# Altium footprint library Header.PcbLib: 112 footprints (part 1 of 7)
Each footprint in its own frame and in the unit in brackets; x right, y up, seen from the top. Pads: shape width x height; smd on the part's side, far side on the other; paste and mask are expansions set on the pad; w line width, h text height; cw(c..) or ccw(c..) is an arc to the next point about the centre after c.
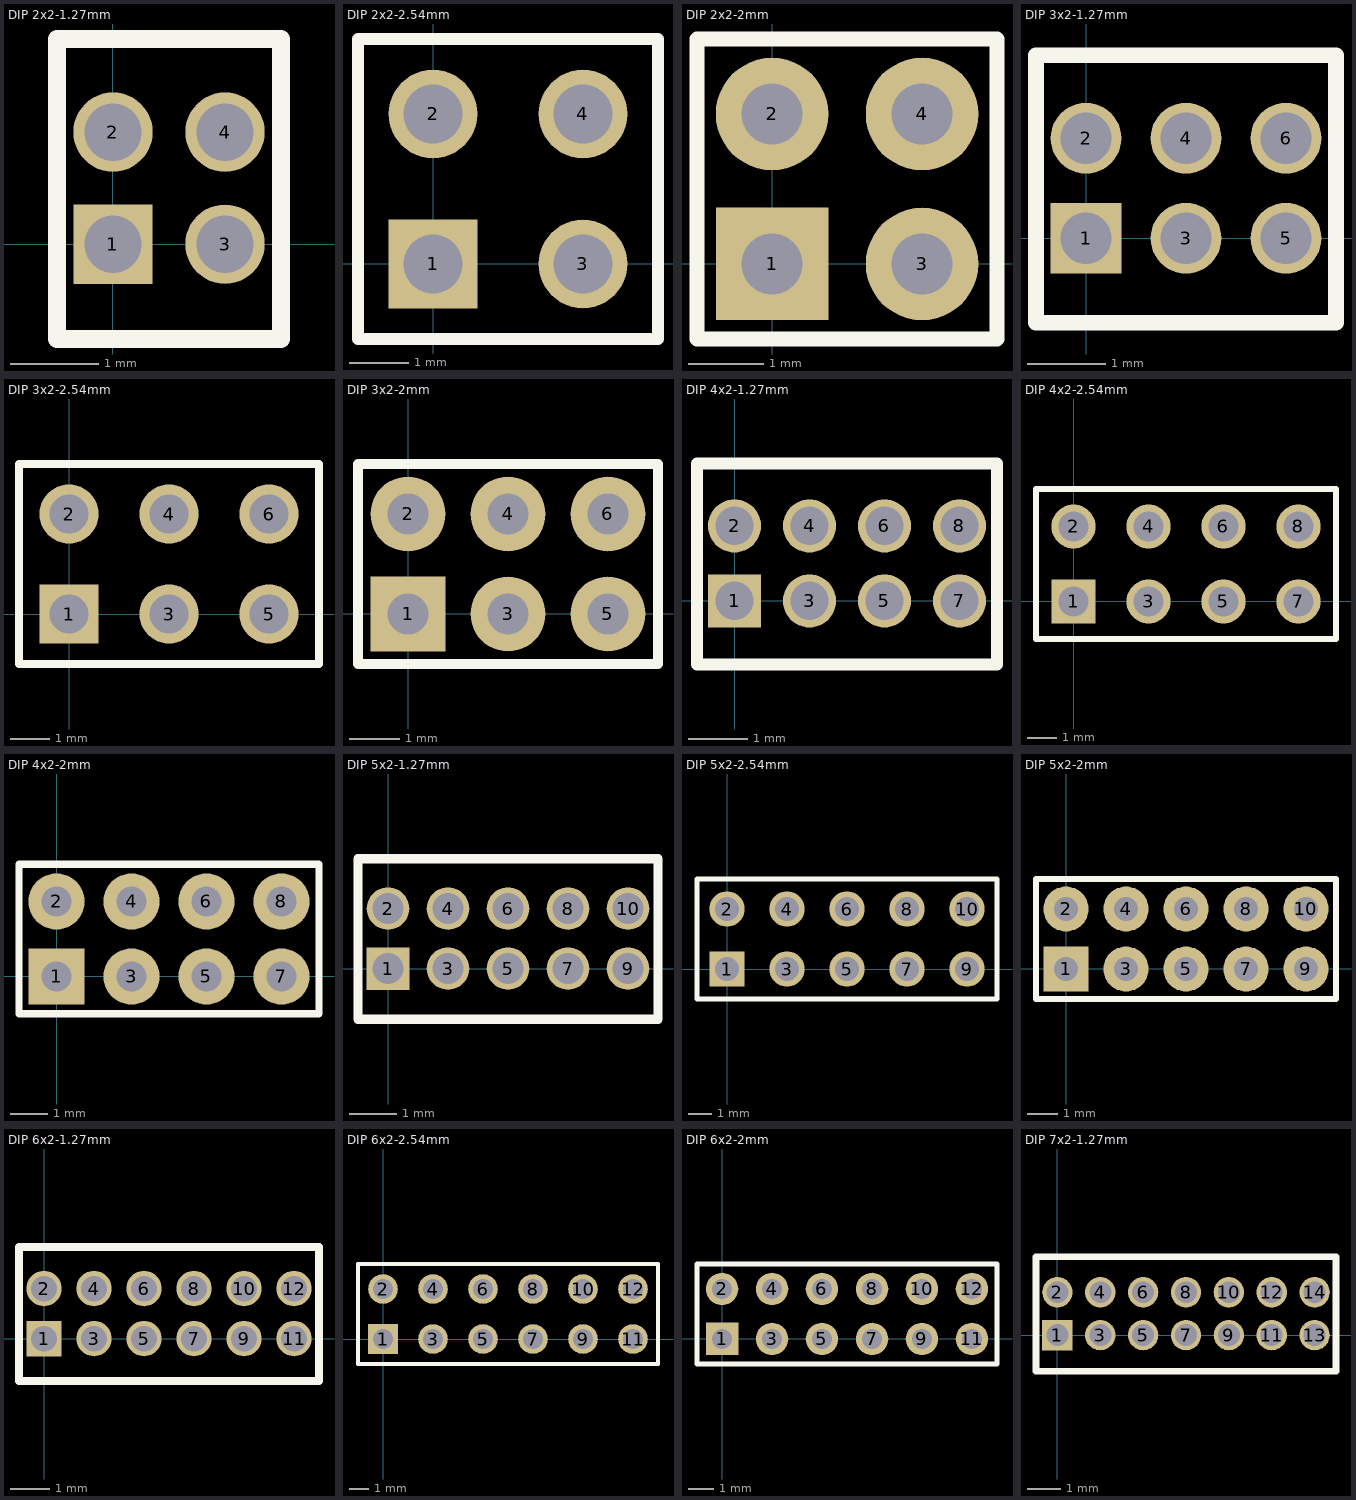
[diagram p0: the footprints below, top view; thin cyan lines are the x and y axes]

## DIP 2x2-1.27mm [mm]
pads (4):
  rect 0.9x0.9 hole 0.65: 1(0,0)
  round 0.9 hole 0.65: 2(0,1.27) 3(1.27,0) 4(1.27,1.27)
Top Overlay:
  lines w0.2: -0.635,-1.075 1.905,-1.075 1.905,2.325 -0.635,2.325 -0.635,-1.075
3D body: height 1.4, standoff 0.4, extent -0.625,-1.075 1.905,2.325
3D body: height 4, standoff 0, extent -0.2,1.07 0.2,1.47
3D body: height 4, standoff 0, extent -0.2,-0.2 0.2,0.2
3D body: height 4, standoff 0, extent 1.07,-0.2 1.47,0.2
3D body: height 4, standoff 0, extent 1.07,1.07 1.47,1.47

## DIP 2x2-2.54mm [mm]
pads (4):
  rect 1.5x1.5 hole 1: 1(0,0)
  round 1.5 hole 1: 2(0,2.54) 3(2.54,0) 4(2.54,2.54)
Top Overlay:
  lines w0.2: -1.27,-1.27 3.81,-1.27 3.81,3.81 -1.27,3.81 -1.27,-1.27
3D body: height 7.5, standoff 0, extent 2.215,-0.325 2.865,0.325
3D body: height 7.5, standoff 0, extent 2.215,2.215 2.865,2.865
3D body: height 7.5, standoff 0, extent -0.325,2.215 0.325,2.865
3D body: height 1.5, standoff 0, extent -1.275,-1.275 3.81,3.825
3D body: height 7.5, standoff 0, extent -0.325,-0.325 0.325,0.325

## DIP 2x2-2mm [mm]
pads (4):
  rect 1.5x1.5 hole 0.813: 1(0,0)
  round 1.5 hole 0.813: 2(0,2) 3(2,0) 4(2,2)
Top Overlay:
  lines w0.2: -1,-1 3,-1 3,3 -1,3 -1,-1
3D body: height 1.5, standoff 0, extent -1,-1 3,3
3D body: height 5.5, standoff 0, extent -0.25,-0.25 0.25,0.25
3D body: height 5.5, standoff 0, extent -0.25,1.75 0.25,2.25
3D body: height 5.5, standoff 0, extent 1.75,1.75 2.25,2.25
3D body: height 5.5, standoff 0, extent 1.75,-0.25 2.25,0.25

## DIP 3x2-1.27mm [mm]
pads (6):
  rect 0.9x0.9 hole 0.65: 1(0,0)
  round 0.9 hole 0.65: 2(0,1.27) 3(1.27,0) 4(1.27,1.27) 5(2.54,0) 6(2.54,1.27)
Top Overlay:
  lines w0.2: -0.635,-1.075 -0.635,2.325 3.175,2.325 3.175,-1.075 -0.635,-1.075
3D body: height 4, standoff 0, extent 2.34,1.07 2.74,1.47
3D body: height 4, standoff 0, extent 2.34,-0.2 2.74,0.2
3D body: height 4, standoff 0, extent 1.07,1.07 1.47,1.47
3D body: height 4, standoff 0, extent 1.07,-0.2 1.47,0.2
3D body: height 4, standoff 0, extent -0.2,-0.2 0.2,0.2
3D body: height 4, standoff 0, extent -0.2,1.07 0.2,1.47
3D body: height 1.4, standoff 0.4, extent -0.625,-1.075 3.175,2.325

## DIP 3x2-2.54mm [mm]
pads (6):
  rect 1.5x1.5 hole 1: 1(0,0)
  round 1.5 hole 1: 2(0,2.54) 3(2.54,0) 4(2.54,2.54) 5(5.08,0) 6(5.08,2.54)
Top Overlay:
  lines w0.2: -1.27,-1.27 6.35,-1.27 6.35,3.81 -1.27,3.81 -1.27,-1.27
3D body: height 7.5, standoff 0, extent 4.755,-0.325 5.405,0.325
3D body: height 7.5, standoff 0, extent 4.755,2.215 5.405,2.865
3D body: height 7.5, standoff 0, extent 2.215,-0.325 2.865,0.325
3D body: height 7.5, standoff 0, extent 2.215,2.215 2.865,2.865
3D body: height 7.5, standoff 0, extent -0.325,2.215 0.325,2.865
3D body: height 1.5, standoff 0, extent -1.275,-1.275 6.35,3.825
3D body: height 7.5, standoff 0, extent -0.325,-0.325 0.325,0.325

## DIP 3x2-2mm [mm]
pads (6):
  rect 1.5x1.5 hole 0.813: 1(0,0)
  round 1.5 hole 0.813: 2(0,2) 3(2,0) 4(2,2) 5(4,0) 6(4,2)
Top Overlay:
  lines w0.2: -1,-1 5,-1 5,3 -1,3 -1,-1
3D body: height 1.5, standoff 0, extent -1,-1 5,3
3D body: height 5.5, standoff 0, extent -0.25,-0.25 0.25,0.25
3D body: height 5.5, standoff 0, extent -0.25,1.75 0.25,2.25
3D body: height 5.5, standoff 0, extent 1.75,1.75 2.25,2.25
3D body: height 5.5, standoff 0, extent 1.75,-0.25 2.25,0.25
3D body: height 5.5, standoff 0, extent 3.75,1.75 4.25,2.25
3D body: height 5.5, standoff 0, extent 3.75,-0.25 4.25,0.25

## DIP 4x2-1.27mm [mm]
pads (8):
  rect 0.9x0.9 hole 0.65: 1(0,0)
  round 0.9 hole 0.65: 2(0,1.27) 3(1.27,0) 4(1.27,1.27) 5(2.54,0) 6(2.54,1.27) 7(3.81,0) 8(3.81,1.27)
Top Overlay:
  lines w0.2: -0.635,-1.075 -0.635,2.325 4.445,2.325 4.445,-1.075 -0.635,-1.075
3D body: height 4, standoff 0, extent 3.61,1.07 4.01,1.47
3D body: height 4, standoff 0, extent 3.61,-0.2 4.01,0.2
3D body: height 4, standoff 0, extent 2.34,1.07 2.74,1.47
3D body: height 4, standoff 0, extent 2.34,-0.2 2.74,0.2
3D body: height 4, standoff 0, extent 1.07,1.07 1.47,1.47
3D body: height 4, standoff 0, extent 1.07,-0.2 1.47,0.2
3D body: height 4, standoff 0, extent -0.2,-0.2 0.2,0.2
3D body: height 4, standoff 0, extent -0.2,1.07 0.2,1.47
3D body: height 1.4, standoff 0.4, extent -0.625,-1.075 4.45,2.325

## DIP 4x2-2.54mm [mm]
pads (8):
  rect 1.5x1.5 hole 1: 1(0,0)
  round 1.5 hole 1: 2(0,2.54) 3(2.54,0) 4(2.54,2.54) 5(5.08,0) 6(5.08,2.54) 7(7.62,0) 8(7.62,2.54)
Top Overlay:
  lines w0.2: -1.27,-1.27 -1.27,3.81 8.89,3.81 8.89,-1.27 -1.27,-1.27
3D body: height 7.5, standoff 0, extent -0.325,-0.325 0.325,0.325
3D body: height 1.5, standoff 0, extent -1.275,-1.275 8.89,3.825
3D body: height 7.5, standoff 0, extent -0.325,2.215 0.325,2.865
3D body: height 7.5, standoff 0, extent 2.215,2.215 2.865,2.865
3D body: height 7.5, standoff 0, extent 2.215,-0.325 2.865,0.325
3D body: height 7.5, standoff 0, extent 7.295,-0.325 7.945,0.325
3D body: height 7.5, standoff 0, extent 7.295,2.215 7.945,2.865
3D body: height 7.5, standoff 0, extent 4.755,2.215 5.405,2.865
3D body: height 7.5, standoff 0, extent 4.755,-0.325 5.405,0.325

## DIP 4x2-2mm [mm]
pads (8):
  rect 1.5x1.5 hole 0.813: 1(0,0)
  round 1.5 hole 0.813: 2(0,2) 3(2,0) 4(2,2) 5(4,0) 6(4,2) 7(6,0) 8(6,2)
Top Overlay:
  lines w0.2: -1,-1 -1,3 7,3 7,-1 -1,-1
3D body: height 5.5, standoff 0, extent 5.75,-0.25 6.25,0.25
3D body: height 5.5, standoff 0, extent 5.75,1.75 6.25,2.25
3D body: height 5.5, standoff 0, extent 3.75,-0.25 4.25,0.25
3D body: height 5.5, standoff 0, extent 3.75,1.75 4.25,2.25
3D body: height 5.5, standoff 0, extent 1.75,-0.25 2.25,0.25
3D body: height 5.5, standoff 0, extent 1.75,1.75 2.25,2.25
3D body: height 5.5, standoff 0, extent -0.25,1.75 0.25,2.25
3D body: height 5.5, standoff 0, extent -0.25,-0.25 0.25,0.25
3D body: height 1.5, standoff 0, extent -1,-1 7,3

## DIP 5x2-1.27mm [mm]
pads (10):
  rect 0.9x0.9 hole 0.65: 1(0,0)
  round 0.9 hole 0.65: 2(0,1.27) 3(1.27,0) 4(1.27,1.27) 5(2.54,0) 6(2.54,1.27) 7(3.81,0) 8(3.81,1.27) 9(5.08,0) 10(5.08,1.27)
Top Overlay:
  lines w0.2: -0.635,-1.075 5.715,-1.075 5.715,2.325 -0.635,2.325 -0.635,-1.075
3D body: height 4, standoff 0, extent 4.88,1.07 5.28,1.47
3D body: height 4, standoff 0, extent 4.88,-0.2 5.28,0.2
3D body: height 1.4, standoff 0.4, extent -0.625,-1.075 5.715,2.325
3D body: height 4, standoff 0, extent -0.2,1.07 0.2,1.47
3D body: height 4, standoff 0, extent -0.2,-0.2 0.2,0.2
3D body: height 4, standoff 0, extent 1.07,-0.2 1.47,0.2
3D body: height 4, standoff 0, extent 1.07,1.07 1.47,1.47
3D body: height 4, standoff 0, extent 2.34,-0.2 2.74,0.2
3D body: height 4, standoff 0, extent 2.34,1.07 2.74,1.47
3D body: height 4, standoff 0, extent 3.61,-0.2 4.01,0.2
3D body: height 4, standoff 0, extent 3.61,1.07 4.01,1.47

## DIP 5x2-2.54mm [mm]
pads (10):
  rect 1.5x1.5 hole 1: 1(0,0)
  round 1.5 hole 1: 2(0,2.54) 3(2.54,0) 4(2.54,2.54) 5(5.08,0) 6(5.08,2.54) 7(7.62,0) 8(7.62,2.54) 9(10.16,0) 10(10.16,2.54)
Top Overlay:
  lines w0.2: -1.27,-1.27 11.43,-1.27 11.43,3.81 -1.27,3.81 -1.27,-1.27
3D body: height 7.5, standoff 0, extent 9.835,-0.325 10.485,0.325
3D body: height 7.5, standoff 0, extent 9.835,2.215 10.485,2.865
3D body: height 7.5, standoff 0, extent 4.755,-0.325 5.405,0.325
3D body: height 7.5, standoff 0, extent 4.755,2.215 5.405,2.865
3D body: height 7.5, standoff 0, extent 7.295,2.215 7.945,2.865
3D body: height 7.5, standoff 0, extent 7.295,-0.325 7.945,0.325
3D body: height 7.5, standoff 0, extent 2.215,-0.325 2.865,0.325
3D body: height 7.5, standoff 0, extent 2.215,2.215 2.865,2.865
3D body: height 7.5, standoff 0, extent -0.325,2.215 0.325,2.865
3D body: height 1.5, standoff 0, extent -1.275,-1.275 11.43,3.825
3D body: height 7.5, standoff 0, extent -0.325,-0.325 0.325,0.325

## DIP 5x2-2mm [mm]
pads (10):
  rect 1.5x1.5 hole 0.813: 1(0,0)
  round 1.5 hole 0.813: 2(0,2) 3(2,0) 4(2,2) 5(4,0) 6(4,2) 7(6,0) 8(6,2) 9(8,0) 10(8,2)
Top Overlay:
  lines w0.2: -1,-1 9,-1 9,3 -1,3 -1,-1
3D body: height 5.5, standoff 0, extent 7.75,-0.25 8.25,0.25
3D body: height 5.5, standoff 0, extent 7.75,1.75 8.25,2.25
3D body: height 5.5, standoff 0, extent 5.75,-0.25 6.25,0.25
3D body: height 5.5, standoff 0, extent 5.75,1.75 6.25,2.25
3D body: height 5.5, standoff 0, extent 3.75,-0.25 4.25,0.25
3D body: height 5.5, standoff 0, extent 3.75,1.75 4.25,2.25
3D body: height 5.5, standoff 0, extent 1.75,-0.25 2.25,0.25
3D body: height 5.5, standoff 0, extent 1.75,1.75 2.25,2.25
3D body: height 5.5, standoff 0, extent -0.25,1.75 0.25,2.25
3D body: height 5.5, standoff 0, extent -0.25,-0.25 0.25,0.25
3D body: height 1.5, standoff 0, extent -1,-1 9,3

## DIP 6x2-1.27mm [mm]
pads (12):
  rect 0.9x0.9 hole 0.65: 1(0,0)
  round 0.9 hole 0.65: 2(0,1.27) 3(1.27,0) 4(1.27,1.27) 5(2.54,0) 6(2.54,1.27) 7(3.81,0) 8(3.81,1.27) 9(5.08,0) 10(5.08,1.27) 11(6.35,0) 12(6.35,1.27)
Top Overlay:
  lines w0.2: -0.635,-1.075 -0.635,2.325 6.985,2.325 6.985,-1.075 -0.635,-1.075
3D body: height 4, standoff 0, extent 6.15,-0.2 6.55,0.2
3D body: height 4, standoff 0, extent 6.15,1.07 6.55,1.47
3D body: height 4, standoff 0, extent 3.61,1.07 4.01,1.47
3D body: height 4, standoff 0, extent 3.61,-0.2 4.01,0.2
3D body: height 4, standoff 0, extent 2.34,1.07 2.74,1.47
3D body: height 4, standoff 0, extent 2.34,-0.2 2.74,0.2
3D body: height 4, standoff 0, extent 1.07,1.07 1.47,1.47
3D body: height 4, standoff 0, extent 1.07,-0.2 1.47,0.2
3D body: height 4, standoff 0, extent -0.2,-0.2 0.2,0.2
3D body: height 4, standoff 0, extent -0.2,1.07 0.2,1.47
3D body: height 1.4, standoff 0.4, extent -0.625,-1.075 6.985,2.325
3D body: height 4, standoff 0, extent 4.88,-0.2 5.28,0.2
3D body: height 4, standoff 0, extent 4.88,1.07 5.28,1.47

## DIP 6x2-2.54mm [mm]
pads (12):
  rect 1.5x1.5 hole 1: 1(0,0)
  round 1.5 hole 1: 2(0,2.54) 3(2.54,0) 4(2.54,2.54) 5(5.08,0) 6(5.08,2.54) 7(7.62,0) 8(7.62,2.54) 9(10.16,0) 10(10.16,2.54) 11(12.7,0) 12(12.7,2.54)
Top Overlay:
  lines w0.2: -1.27,-1.27 13.97,-1.27 13.97,3.81 -1.27,3.81 -1.27,-1.27
3D body: height 7.5, standoff 0, extent 9.835,-0.325 10.485,0.325
3D body: height 7.5, standoff 0, extent 9.835,2.215 10.485,2.865
3D body: height 7.5, standoff 0, extent 12.375,2.215 13.025,2.865
3D body: height 7.5, standoff 0, extent 12.375,-0.325 13.025,0.325
3D body: height 7.5, standoff 0, extent 4.755,-0.325 5.405,0.325
3D body: height 7.5, standoff 0, extent 4.755,2.215 5.405,2.865
3D body: height 7.5, standoff 0, extent 7.295,2.215 7.945,2.865
3D body: height 7.5, standoff 0, extent 7.295,-0.325 7.945,0.325
3D body: height 7.5, standoff 0, extent 2.215,-0.325 2.865,0.325
3D body: height 7.5, standoff 0, extent 2.215,2.215 2.865,2.865
3D body: height 7.5, standoff 0, extent -0.325,2.215 0.325,2.865
3D body: height 1.5, standoff 0, extent -1.275,-1.275 13.97,3.825
3D body: height 7.5, standoff 0, extent -0.325,-0.325 0.325,0.325

## DIP 6x2-2mm [mm]
pads (12):
  rect 1.3x1.3 hole 0.8: 1(0,0)
  round 1.3 hole 0.8: 2(0,2) 3(2,0) 4(2,2) 5(4,0) 6(4,2) 7(6,0) 8(6,2) 9(8,0) 10(8,2) 11(10,0) 12(10,2)
Top Overlay:
  lines w0.2: -1,-1 11,-1 11,3 -1,3 -1,-1
3D body: height 5.5, standoff 0, extent 9.75,-0.25 10.25,0.25
3D body: height 5.5, standoff 0, extent 9.75,1.75 10.25,2.25
3D body: height 5.5, standoff 0, extent 7.75,-0.25 8.25,0.25
3D body: height 5.5, standoff 0, extent 7.75,1.75 8.25,2.25
3D body: height 5.5, standoff 0, extent 5.75,-0.25 6.25,0.25
3D body: height 5.5, standoff 0, extent 5.75,1.75 6.25,2.25
3D body: height 5.5, standoff 0, extent 3.75,-0.25 4.25,0.25
3D body: height 5.5, standoff 0, extent 3.75,1.75 4.25,2.25
3D body: height 5.5, standoff 0, extent 1.75,-0.25 2.25,0.25
3D body: height 5.5, standoff 0, extent 1.75,1.75 2.25,2.25
3D body: height 5.5, standoff 0, extent -0.25,1.75 0.25,2.25
3D body: height 5.5, standoff 0, extent -0.25,-0.25 0.25,0.25
3D body: height 1.5, standoff 0, extent -1,-1 11,3

## DIP 7x2-1.27mm [mm]
pads (14):
  rect 0.9x0.9 hole 0.65: 1(0,0)
  round 0.9 hole 0.65: 2(0,1.27) 3(1.27,0) 4(1.27,1.27) 5(2.54,0) 6(2.54,1.27) 7(3.81,0) 8(3.81,1.27) 9(5.08,0) 10(5.08,1.27) 11(6.35,0) 12(6.35,1.27) 13(7.62,0) 14(7.62,1.27)
Top Overlay:
  lines w0.2: -0.635,-1.075 -0.635,2.325 8.255,2.325 8.255,-1.075 -0.635,-1.075
3D body: height 4, standoff 0, extent 6.15,-0.2 6.55,0.2
3D body: height 4, standoff 0, extent 6.15,1.07 6.55,1.47
3D body: height 4, standoff 0, extent 7.42,-0.2 7.82,0.2
3D body: height 4, standoff 0, extent 7.42,1.07 7.82,1.47
3D body: height 4, standoff 0, extent 3.61,1.07 4.01,1.47
3D body: height 4, standoff 0, extent 3.61,-0.2 4.01,0.2
3D body: height 4, standoff 0, extent 2.34,1.07 2.74,1.47
3D body: height 4, standoff 0, extent 2.34,-0.2 2.74,0.2
3D body: height 4, standoff 0, extent 1.07,1.07 1.47,1.47
3D body: height 4, standoff 0, extent 1.07,-0.2 1.47,0.2
3D body: height 4, standoff 0, extent -0.2,-0.2 0.2,0.2
3D body: height 4, standoff 0, extent -0.2,1.07 0.2,1.47
3D body: height 1.4, standoff 0.4, extent -0.625,-1.075 8.255,2.325
3D body: height 4, standoff 0, extent 4.88,-0.2 5.28,0.2
3D body: height 4, standoff 0, extent 4.88,1.07 5.28,1.47